# EAGLE library part THR_10-2411WI (library SamacSys_Parts)
10 Watt DC/DC converter, industrial, 4:1 input, reinforced isolation (3000 VAC), encapsulated, 2"x1" Source: Datasheet <https://tracopower.com/thr10wi-datasheet/>
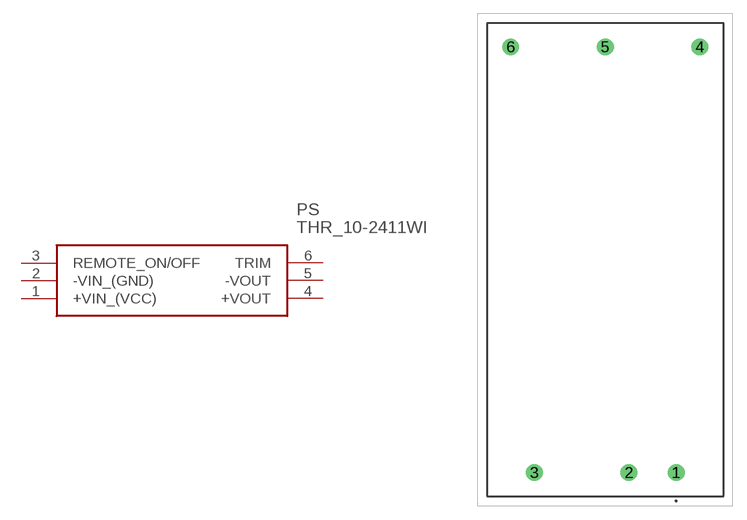
[diagram p1: symbol with the pads of THR102411WI; footprint THR102411WI]

Designator prefix PS

## THR_10-2411WI (Description: 10 Watt DC/DC converter, industrial, 4:1 input, reinforced isolation (3000 VAC), encapsulated, 2"x1"; Height: 11.75mm; Manufacturer_Name: Traco Power; Manufacturer_Part_Number: THR 10-2411WI; Mouser_Part_Number: 495-THR10-2411WI; Mouser_Price-Stock: https://www.mouser.co.uk/ProductDetail/TRACO-Power/THR-10-2411WI?qs=e8oIoAS2J1RIOrngTDvIhA%3D%3D)  [THR102411WI]
1  +VIN_(VCC)
2  -VIN_(GND)
3  REMOTE_ON/OFF
4  +VOUT
5  -VOUT
6  TRIM

## Footprint THR102411WI (pad centres in mm)
THR 10-2411WI-2
drill 1.2 pad 1.8: 1 0,0; 2 -5.08,0; 3 -15.24,0; 4 2.54,45.72; 5 -7.62,45.72; 6 -17.78,45.72